# Altium footprint library CONN_W2B_H.PcbLib: 16 footprints
Each footprint in its own frame and in the unit in brackets; x right, y up, seen from the top. Pads: shape width x height; smd on the part's side, far side on the other; paste and mask are expansions set on the pad; w line width, h text height; cw(c..) or ccw(c..) is an arc to the next point about the centre after c.
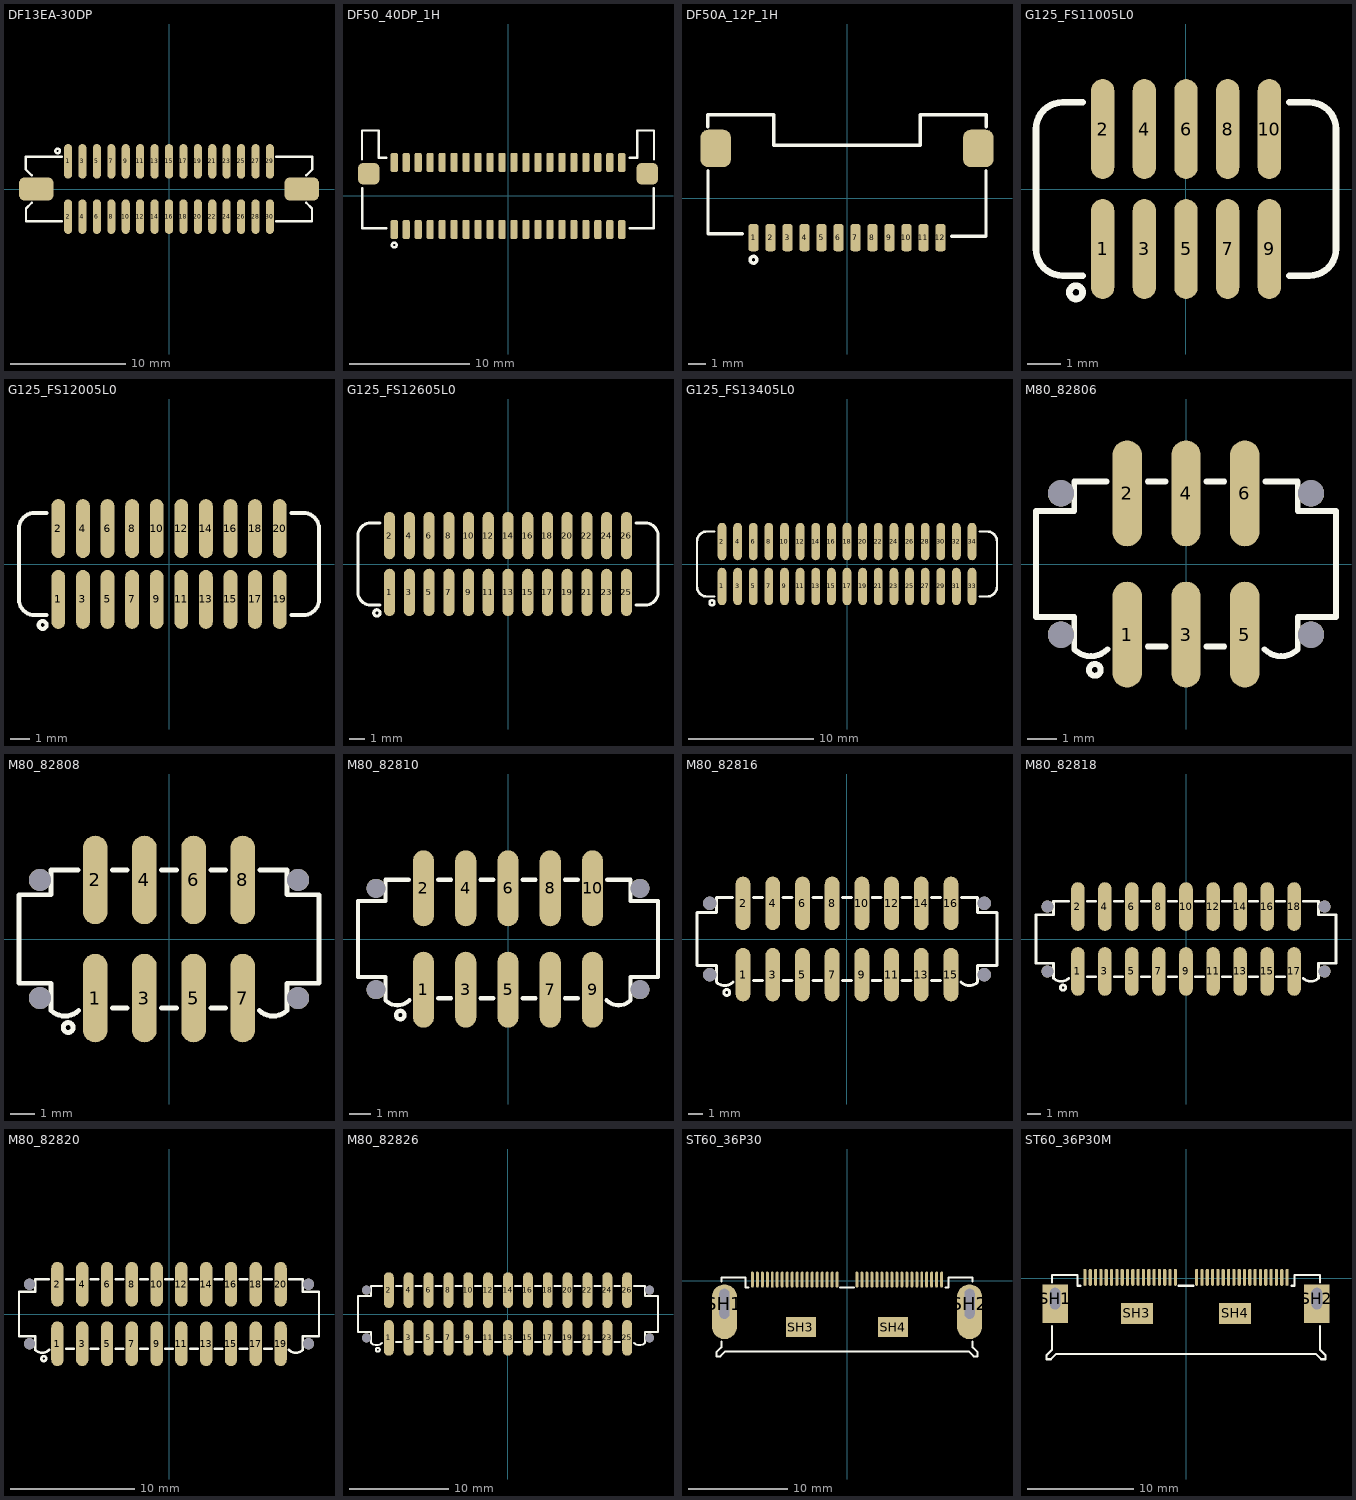
[diagram p0: the footprints below, top view; thin cyan lines are the x and y axes]

## DF13EA-30DP [mm] "DF13EA-30DP-1.25V Hirose 1.25mm"
pads (32):
  oval 0.7x3 smd: 1(-8.75,2.4) 2(-8.75,-2.4) 3(-7.5,2.4) 4(-7.5,-2.4) 5(-6.25,2.4) 6(-6.25,-2.4) 7(-5,2.4) 8(-5,-2.4) 9(-3.75,2.4) 10(-3.75,-2.4) 11(-2.5,2.4) 12(-2.5,-2.4) 13(-1.25,2.4) 14(-1.25,-2.4) 15(0,2.4) 16(0,-2.4) 17(1.25,2.4) 18(1.25,-2.4) 19(2.5,2.4) 20(2.5,-2.4) 21(3.75,2.4) 22(3.75,-2.4) 23(5,2.4) 24(5,-2.4) 25(6.25,2.4) 26(6.25,-2.4) 27(7.5,2.4) 28(7.5,-2.4) 29(8.75,2.4) 30(8.75,-2.4)
  rrect50% 3x2 smd: ""(-11.5,0) ""(11.5,0)
Top Overlay:
  circle w0.2: c-9.65,3.3 r0.2
  lines w0.2: -11.906,1.196 -12.406,1.696 -12.406,2.796 -9.306,2.796 ; -11.9,-1.2 -12.4,-1.7 -12.4,-2.8 -9.3,-2.8 ; 9.3,-2.8 12.4,-2.8 12.4,-1.7 11.9,-1.2 ; 9.306,2.796 12.406,2.796 12.406,1.696 11.906,1.196
3D body "DF13EA-30DP-1.25V.stp": height 4.8, standoff 0, extent -12.3,-3.45 12.3,3.45

## DF50_40DP_1H [mm] "DF50-40DP-1H(51)"
height 1.6
pads (42):
  rrect50% 0.6x1.6 smd: 1(-9.5,-2.8) 2(-9.5,2.8) 3(-8.5,-2.8) 4(-8.5,2.8) 5(-7.5,-2.8) 6(-7.5,2.8) 7(-6.5,-2.8) 8(-6.5,2.8) 9(-5.5,-2.8) 10(-5.5,2.8) 11(-4.5,-2.8) 12(-4.5,2.8) 13(-3.5,-2.8) 14(-3.5,2.8) 15(-2.5,-2.8) 16(-2.5,2.8) 17(-1.5,-2.8) 18(-1.5,2.8) 19(-0.5,-2.8) 20(-0.5,2.8) 21(0.5,-2.8) 22(0.5,2.8) 23(1.5,-2.8) 24(1.5,2.8) 25(2.5,-2.8) 26(2.5,2.8) 27(3.5,-2.8) 28(3.5,2.8) 29(4.5,-2.8) 30(4.5,2.8) 31(5.5,-2.8) 32(5.5,2.8) 33(6.5,-2.8) 34(6.5,2.8) 35(7.5,-2.8) 36(7.5,2.8) 37(8.5,-2.8) 38(8.5,2.8) 39(9.5,-2.8) 40(9.5,2.8)
  rrect50% 1.8x1.8 smd: ""(-11.625,1.85) ""(11.625,1.85)
Top Overlay:
  circle w0.2: c-9.5,-4.1 r0.2
  lines w0.2: -12.192,3.048 -12.192,5.461 -10.795,5.461 -10.795,3.175 -10.16,3.175 ; -12.175,0.635 -12.175,-2.71 -10.16,-2.71 ; 10.16,-2.71 12.175,-2.71 12.175,0.635 ; 10.16,3.175 10.795,3.175 10.795,5.461 12.192,5.461 12.192,3.048
3D body "DF50-40DP-1H.stp": height 9.01, standoff 0.01, extent -12.175,-3.218 12.175,5.442

## DF50A_12P_1H [mm] "DF50A-12P-1H(51), 1mm pitch"
pads (14):
  rrect50% 0.6x1.6 smd: 1(-5.5,-2.325) 2(-4.5,-2.325) 3(-3.5,-2.325) 4(-2.5,-2.325) 5(-1.5,-2.325) 6(-0.5,-2.325) 7(0.5,-2.325) 8(1.5,-2.325) 9(2.5,-2.325) 10(3.5,-2.325) 11(4.5,-2.325) 12(5.5,-2.325)
  rrect50% 1.8x2.2 smd: ""(-7.725,2.925) ""(7.725,2.925)
Top Overlay:
  circle w0.2: c-5.5,-3.625 r0.2
  lines w0.2: -8.192,4.2 -8.192,4.9 -4.3,4.9 -4.3,3.1 4.3,3.1 4.3,4.9 8.192,4.9 8.192,4.2 ; -8.175,1.6 -8.175,-2.1 -6.16,-2.1 ; 6.16,-2.235 8.175,-2.235 8.175,1.6
3D body "DF50A-12P-1H.stp": height 6.07, standoff -0.01, extent -8.405,-2.8 8.405,4.8

## G125_FS11005L0 [mm] "G125-FS11005L0 Harwin Gecko 1.25mm Female"
pads (10):
  oval 0.7x3 smd: 1(-2.5,-1.8) 2(-2.5,1.8) 3(-1.25,-1.8) 4(-1.25,1.8) 5(0,-1.8) 6(0,1.8) 7(1.25,-1.8) 8(1.25,1.8) 9(2.5,-1.8) 10(2.5,1.8)
Top Overlay:
  circle w0.2: c-3.3,-3.1 r0.2
  lines w0.2: -3.1,-2.6 -3.7,-2.6 cw(c-3.7,-1.8) -4.5,-1.8 -4.5,1.8 cw(c-3.7,1.8) -3.7,2.6 -3.1,2.6 ; 3.1,-2.6 3.7,-2.6 ccw(c3.7,-1.8) 4.5,-1.8 4.5,1.8 ccw(c3.7,1.8) 3.7,2.6 3.1,2.6
3D body "G125-FS11005L0_asm.stp": height 5.3, standoff -0.03, extent -4.4,-2.897 4.4,2.897

## G125_FS12005L0 [mm] "G125-FS12005L0 Harwin Gecko 1.25mm Female"
pads (20):
  oval 0.7x3 smd: 1(-5.625,-1.8) 2(-5.625,1.8) 3(-4.375,-1.8) 4(-4.375,1.8) 5(-3.125,-1.8) 6(-3.125,1.8) 7(-1.875,-1.8) 8(-1.875,1.8) 9(-0.625,-1.8) 10(-0.625,1.8) 11(0.625,-1.8) 12(0.625,1.8) 13(1.875,-1.8) 14(1.875,1.8) 15(3.125,-1.8) 16(3.125,1.8) 17(4.375,-1.8) 18(4.375,1.8) 19(5.625,-1.8) 20(5.625,1.8)
Top Overlay:
  circle w0.2: c-6.425,-3.1 r0.2
  lines w0.2: -6.225,-2.6 -6.825,-2.6 cw(c-6.825,-1.8) -7.625,-1.8 -7.625,1.8 cw(c-6.825,1.8) -6.825,2.6 -6.225,2.6 ; 6.225,-2.6 6.825,-2.6 ccw(c6.825,-1.8) 7.625,-1.8 7.625,1.8 ccw(c6.825,1.8) 6.825,2.6 6.225,2.6
3D body "G125-FS12005L0_asm.stp": height 5.3, standoff -0.04, extent -7.525,-2.897 7.525,2.897

## G125_FS12605L0 [mm] "G125-FS12605L0 Harwin Gecko 1.25mm Female"
pads (26):
  oval 0.7x3 smd: 1(-7.5,-1.8) 2(-7.5,1.8) 3(-6.25,-1.8) 4(-6.25,1.8) 5(-5,-1.8) 6(-5,1.8) 7(-3.75,-1.8) 8(-3.75,1.8) 9(-2.5,-1.8) 10(-2.5,1.8) 11(-1.25,-1.8) 12(-1.25,1.8) 13(0,-1.8) 14(0,1.8) 15(1.25,-1.8) 16(1.25,1.8) 17(2.5,-1.8) 18(2.5,1.8) 19(3.75,-1.8) 20(3.75,1.8) 21(5,-1.8) 22(5,1.8) 23(6.25,-1.8) 24(6.25,1.8) 25(7.5,-1.8) 26(7.5,1.8)
Top Overlay:
  circle w0.2: c-8.3,-3.1 r0.2
  lines w0.2: -8.1,-2.6 -8.7,-2.6 cw(c-8.7,-1.8) -9.5,-1.8 -9.5,1.8 cw(c-8.7,1.8) -8.7,2.6 -8.1,2.6 ; 8.1,-2.6 8.7,-2.6 ccw(c8.7,-1.8) 9.5,-1.8 9.5,1.8 ccw(c8.7,1.8) 8.7,2.6 8.1,2.6
3D body "G125-FS12605L0_asm.stp": height 5.3, standoff -0.04, extent -9.4,-2.897 9.4,2.897

## G125_FS13405L0 [mm] "G125-FS13405L0 Harwin Gecko 1.25mm Female"
pads (34):
  oval 0.7x3 smd: 1(-10,-1.8) 2(-10,1.8) 3(-8.75,-1.8) 4(-8.75,1.8) 5(-7.5,-1.8) 6(-7.5,1.8) 7(-6.25,-1.8) 8(-6.25,1.8) 9(-5,-1.8) 10(-5,1.8) 11(-3.75,-1.8) 12(-3.75,1.8) 13(-2.5,-1.8) 14(-2.5,1.8) 15(-1.25,-1.8) 16(-1.25,1.8) 17(0,-1.8) 18(0,1.8) 19(1.25,-1.8) 20(1.25,1.8) 21(2.5,-1.8) 22(2.5,1.8) 23(3.75,-1.8) 24(3.75,1.8) 25(5,-1.8) 26(5,1.8) 27(6.25,-1.8) 28(6.25,1.8) 29(7.5,-1.8) 30(7.5,1.8) 31(8.75,-1.8) 32(8.75,1.8) 33(10,-1.8) 34(10,1.8)
Top Overlay:
  circle w0.2: c-10.8,-3.1 r0.2
  lines w0.2: -10.6,-2.6 -11.2,-2.6 cw(c-11.2,-1.8) -12,-1.8 -12,1.8 cw(c-11.2,1.8) -11.2,2.6 -10.6,2.6 ; 10.6,-2.6 11.2,-2.6 ccw(c11.2,-1.8) 12,-1.8 12,1.8 ccw(c11.2,1.8) 11.2,2.6 10.6,2.6
3D body "g125-fs13405l0_asm.stp": height 5.3, standoff -0.03, extent -11.9,-2.897 11.9,2.897

## M80_82806 [mm] "M80-82806 Harwin Datamate 2mm Male"
pads (10):
  oval 1x3.6 smd: 1(-2,-2.4) 2(-2,2.4) 3(0,-2.4) 4(0,2.4) 5(2,-2.4) 6(2,2.4)
  round 0.9 hole 0.9 unplated: ""(-4.25,-2.4) ""(-4.25,2.4) ""(4.25,-2.4) ""(4.25,2.4)
Top Overlay:
  circle w0.2: c-3.1,-3.6 r0.2
  lines w0.2: -2.7,2.8 -3.8,2.8 -3.8,1.8 -5.1,1.8 -5.1,-1.8 -3.8,-1.8 -3.8,-2.9 ccw(c-3.234,-2.334) -2.669,-2.9 ; -1.3,-2.8 -0.7,-2.8 ; -1.3,2.8 -0.7,2.8 ; 0.7,-2.8 1.3,-2.8 ; 0.7,2.8 1.3,2.8 ; 2.669,-2.9 ccw(c3.234,-2.334) 3.8,-2.9 3.8,-1.8 5.1,-1.8 5.1,1.8 3.8,1.8 3.8,2.8 2.7,2.8
3D body "m80-8280642_asm.stp": height 9, standoff 0.04, extent -4.95,-3.781 4.95,3.781

## M80_82808 [mm] "M80-8280842 Harwin Datamate 2mm Male"
pads (12):
  oval 1x3.6 smd: 1(-3,-2.4) 2(-3,2.4) 3(-1,-2.4) 4(-1,2.4) 5(1,-2.4) 6(1,2.4) 7(3,-2.4) 8(3,2.4)
  round 0.9 hole 0.9 unplated: ""(-5.25,-2.4) ""(-5.25,2.4) ""(5.25,-2.4) ""(5.25,2.4)
Top Overlay:
  circle w0.2: c-4.1,-3.6 r0.2
  lines w0.2: -3.7,2.8 -4.8,2.8 -4.8,1.8 -6.1,1.8 -6.1,-1.8 -4.8,-1.8 -4.8,-2.9 ccw(c-4.234,-2.334) -3.669,-2.9 ; -2.3,-2.8 -1.7,-2.8 ; -2.3,2.8 -1.7,2.8 ; -0.3,-2.8 0.3,-2.8 ; -0.3,2.8 0.3,2.8 ; 1.7,-2.8 2.3,-2.8 ; 1.7,2.8 2.3,2.8 ; 3.669,-2.9 ccw(c4.234,-2.334) 4.8,-2.9 4.8,-1.8 6.1,-1.8 6.1,1.8 4.8,1.8 4.8,2.8 3.7,2.8
3D body "m80-8280842_asm.stp": height 9, standoff 0.04, extent -5.95,-3.781 5.95,3.781

## M80_82810 [mm] "M80-8281042 Harwin Datamate 2mm Male"
pads (14):
  oval 1x3.6 smd: 1(-4,-2.4) 2(-4,2.4) 3(-2,-2.4) 4(-2,2.4) 5(0,-2.4) 6(0,2.4) 7(2,-2.4) 8(2,2.4) 9(4,-2.4) 10(4,2.4)
  round 0.9 hole 0.9 unplated: ""(-6.25,-2.4) ""(-6.25,2.4) ""(6.25,-2.4) ""(6.25,2.4)
Top Overlay:
  circle w0.2: c-5.1,-3.6 r0.2
  lines w0.2: -4.7,2.8 -5.8,2.8 -5.8,1.8 -7.1,1.8 -7.1,-1.8 -5.8,-1.8 -5.8,-2.9 ccw(c-5.234,-2.334) -4.669,-2.9 ; -3.3,-2.8 -2.7,-2.8 ; -3.3,2.8 -2.7,2.8 ; -1.3,-2.8 -0.7,-2.8 ; -1.3,2.8 -0.7,2.8 ; 0.7,-2.8 1.3,-2.8 ; 0.7,2.8 1.3,2.8 ; 2.7,-2.8 3.3,-2.8 ; 2.7,2.8 3.3,2.8 ; 4.669,-2.9 ccw(c5.234,-2.334) 5.8,-2.9 5.8,-1.8 7.1,-1.8 7.1,1.8 5.8,1.8 5.8,2.8 4.7,2.8
3D body "m80-8281042_asm.stp": height 9, standoff 0.04, extent -6.95,-3.781 6.95,3.781

## M80_82816 [mm] "M80-8281642 Harwin Datamate 2mm Male"
pads (20):
  oval 1x3.6 smd: 1(-7,-2.4) 2(-7,2.4) 3(-5,-2.4) 4(-5,2.4) 5(-3,-2.4) 6(-3,2.4) 7(-1,-2.4) 8(-1,2.4) 9(1,-2.4) 10(1,2.4) 11(3,-2.4) 12(3,2.4) 13(5,-2.4) 14(5,2.4) 15(7,-2.4) 16(7,2.4)
  round 0.9 hole 0.9 unplated: ""(-9.25,-2.4) ""(-9.25,2.4) ""(9.25,-2.4) ""(9.25,2.4)
Top Overlay:
  circle w0.2: c-8.1,-3.6 r0.2
  lines w0.2: -7.7,2.8 -8.8,2.8 -8.8,1.8 -10.1,1.8 -10.1,-1.8 -8.8,-1.8 -8.8,-2.9 ccw(c-8.234,-2.334) -7.669,-2.9 ; -6.3,-2.8 -5.7,-2.8 ; -6.3,2.8 -5.7,2.8 ; -4.3,-2.8 -3.7,-2.8 ; -4.3,2.8 -3.7,2.8 ; -2.3,-2.8 -1.7,-2.8 ; -2.3,2.8 -1.7,2.8 ; -0.3,-2.8 0.3,-2.8 ; -0.3,2.8 0.3,2.8 ; 1.7,-2.8 2.3,-2.8 ; 1.7,2.8 2.3,2.8 ; 3.7,-2.8 4.3,-2.8 ; 3.7,2.8 4.3,2.8 ; 5.7,-2.8 6.3,-2.8 ; 5.7,2.8 6.3,2.8 ; 7.669,-2.9 ccw(c8.234,-2.334) 8.8,-2.9 8.8,-1.8 10.1,-1.8 10.1,1.8 8.8,1.8 8.8,2.8 7.7,2.8
3D body "m80-8281642_asm.stp": height 9, standoff 0.04, extent -9.95,-3.781 9.95,3.781

## M80_82818 [mm] "M80-8281842 Harwin Datamate 2mm Male"
pads (22):
  oval 1x3.6 smd: 1(-8,-2.4) 2(-8,2.4) 3(-6,-2.4) 4(-6,2.4) 5(-4,-2.4) 6(-4,2.4) 7(-2,-2.4) 8(-2,2.4) 9(0,-2.4) 10(0,2.4) 11(2,-2.4) 12(2,2.4) 13(4,-2.4) 14(4,2.4) 15(6,-2.4) 16(6,2.4) 17(8,-2.4) 18(8,2.4)
  round 0.9 hole 0.9 unplated: ""(-10.25,-2.4) ""(-10.25,2.4) ""(10.25,-2.4) ""(10.25,2.4)
Top Overlay:
  circle w0.2: c-9.1,-3.6 r0.2
  lines w0.2: -8.7,2.8 -9.8,2.8 -9.8,1.8 -11.1,1.8 -11.1,-1.8 -9.8,-1.8 -9.8,-2.9 ccw(c-9.234,-2.334) -8.669,-2.9 ; -7.3,-2.8 -6.7,-2.8 ; -7.3,2.8 -6.7,2.8 ; -5.3,-2.8 -4.7,-2.8 ; -5.3,2.8 -4.7,2.8 ; -3.3,-2.8 -2.7,-2.8 ; -3.3,2.8 -2.7,2.8 ; -1.3,-2.8 -0.7,-2.8 ; -1.3,2.8 -0.7,2.8 ; 0.7,-2.8 1.3,-2.8 ; 0.7,2.8 1.3,2.8 ; 2.7,-2.8 3.3,-2.8 ; 2.7,2.8 3.3,2.8 ; 4.7,-2.8 5.3,-2.8 ; 4.7,2.8 5.3,2.8 ; 6.7,-2.8 7.3,-2.8 ; 6.7,2.8 7.3,2.8 ; 8.669,-2.9 ccw(c9.234,-2.334) 9.8,-2.9 9.8,-1.8 11.1,-1.8 11.1,1.8 9.8,1.8 9.8,2.8 8.7,2.8
3D body "m80-8281842_asm.stp": height 9, standoff 0.04, extent -10.95,-3.781 10.95,3.781

## M80_82820 [mm] "M80-8282042 Harwin Datamate 2mm Male"
pads (24):
  oval 1x3.6 smd: 1(-9,-2.4) 2(-9,2.4) 3(-7,-2.4) 4(-7,2.4) 5(-5,-2.4) 6(-5,2.4) 7(-3,-2.4) 8(-3,2.4) 9(-1,-2.4) 10(-1,2.4) 11(1,-2.4) 12(1,2.4) 13(3,-2.4) 14(3,2.4) 15(5,-2.4) 16(5,2.4) 17(7,-2.4) 18(7,2.4) 19(9,-2.4) 20(9,2.4)
  round 0.9 hole 0.9 unplated: ""(-11.25,-2.4) ""(-11.25,2.4) ""(11.25,-2.4) ""(11.25,2.4)
Top Overlay:
  circle w0.2: c-10.1,-3.6 r0.2
  lines w0.2: -9.7,2.8 -10.8,2.8 -10.8,1.8 -12.1,1.8 -12.1,-1.8 -10.8,-1.8 -10.8,-2.9 ccw(c-10.234,-2.334) -9.669,-2.9 ; -8.3,-2.8 -7.7,-2.8 ; -8.3,2.8 -7.7,2.8 ; -6.3,-2.8 -5.7,-2.8 ; -6.3,2.8 -5.7,2.8 ; -4.3,-2.8 -3.7,-2.8 ; -4.3,2.8 -3.7,2.8 ; -2.3,-2.8 -1.7,-2.8 ; -2.3,2.8 -1.7,2.8 ; -0.3,-2.8 0.3,-2.8 ; -0.3,2.8 0.3,2.8 ; 1.7,-2.8 2.3,-2.8 ; 1.7,2.8 2.3,2.8 ; 3.7,-2.8 4.3,-2.8 ; 3.7,2.8 4.3,2.8 ; 5.7,-2.8 6.3,-2.8 ; 5.7,2.8 6.3,2.8 ; 7.7,-2.8 8.3,-2.8 ; 7.7,2.8 8.3,2.8 ; 9.669,-2.9 ccw(c10.234,-2.334) 10.8,-2.9 10.8,-1.8 12.1,-1.8 12.1,1.8 10.8,1.8 10.8,2.8 9.7,2.8
3D body "m80-8282042_asm.stp": height 9, standoff 0.04, extent -11.95,-3.781 11.95,3.781

## M80_82826 [mm] "M80-8282642 Harwin Datamate 2mm Male"
pads (30):
  oval 1x3.6 smd: 1(-12,-2.4) 2(-12,2.4) 3(-10,-2.4) 4(-10,2.4) 5(-8,-2.4) 6(-8,2.4) 7(-6,-2.4) 8(-6,2.4) 9(-4,-2.4) 10(-4,2.4) 11(-2,-2.4) 12(-2,2.4) 13(0,-2.4) 14(0,2.4) 15(2,-2.4) 16(2,2.4) 17(4,-2.4) 18(4,2.4) 19(6,-2.4) 20(6,2.4) 21(8,-2.4) 22(8,2.4) 23(10,-2.4) 24(10,2.4) 25(12,-2.4) 26(12,2.4)
  round 0.9 hole 0.9 unplated: ""(-14.25,-2.4) ""(-14.25,2.4) ""(14.25,-2.4) ""(14.25,2.4)
Top Overlay:
  circle w0.2: c-13.1,-3.6 r0.2
  lines w0.2: -12.7,2.8 -13.8,2.8 -13.8,1.8 -15.1,1.8 -15.1,-1.8 -13.8,-1.8 -13.8,-2.9 ccw(c-13.234,-2.334) -12.669,-2.9 ; -11.3,-2.8 -10.7,-2.8 ; -11.3,2.8 -10.7,2.8 ; -9.3,-2.8 -8.7,-2.8 ; -9.3,2.8 -8.7,2.8 ; -7.3,-2.8 -6.7,-2.8 ; -7.3,2.8 -6.7,2.8 ; -5.3,-2.8 -4.7,-2.8 ; -5.3,2.8 -4.7,2.8 ; -3.3,-2.8 -2.7,-2.8 ; -3.3,2.8 -2.7,2.8 ; -1.3,-2.8 -0.7,-2.8 ; -1.3,2.8 -0.7,2.8 ; 0.7,-2.8 1.3,-2.8 ; 0.7,2.8 1.3,2.8 ; 2.7,-2.8 3.3,-2.8 ; 2.7,2.8 3.3,2.8 ; 4.7,-2.8 5.3,-2.8 ; 4.7,2.8 5.3,2.8 ; 6.7,-2.8 7.3,-2.8 ; 6.7,2.8 7.3,2.8 ; 8.7,-2.8 9.3,-2.8 ; 8.7,2.8 9.3,2.8 ; 10.7,-2.8 11.3,-2.8 ; 10.7,2.8 11.3,2.8 ; 12.669,-2.9 ccw(c13.234,-2.334) 13.8,-2.9 13.8,-1.8 15.1,-1.8 15.1,1.8 13.8,1.8 13.8,2.8 12.7,2.8
3D body "m80-8282642_asm.stp": height 9, standoff 0.04, extent -14.95,-3.781 14.95,3.781

## ST60_36P30 [mm] "ST60-36P(30) HIROSE, 0.5mm pitch"
height 4.06
pads (40):
  oval 0.3x1.6 smd mask+0.05: 1(-9.5,0.1) 2(-9,0.1) 3(-8.5,0.1) 4(-8,0.1) 5(-7.5,0.1) 6(-7,0.1) 7(-6.5,0.1) 8(-6,0.1) 9(-5.5,0.1) 10(-5,0.1) 11(-4.5,0.1) 12(-4,0.1) 13(-3.5,0.1) 14(-3,0.1) 15(-2.5,0.1) 16(-2,0.1) 17(-1.5,0.1) 18(-1,0.1) 19(1,0.1) 20(1.5,0.1) 21(2,0.1) 22(2.5,0.1) 23(3,0.1) 24(3.5,0.1) 25(4,0.1) 26(4.5,0.1) 27(5,0.1) 28(5.5,0.1) 29(6,0.1) 30(6.5,0.1) 31(7,0.1) 32(7.5,0.1) 33(8,0.1) 34(8.5,0.1) 35(9,0.1) 36(9.5,0.1)
  oval 2.5x5.5 hole 1 slot 3 at 90 deg copper offset 0,-0.8: SH1(-12.3,-2.325) SH2(12.3,-2.325)
  rect 3x2 smd: SH3(-4.625,-4.675) SH4(4.625,-4.675)
Top Overlay:
  lines w0.2: -12.6,-6.1 -12.6,-6.7 -13.1,-7.2 -13.1,-7.6 -12.7,-7.6 -12.2,-7.1 12.2,-7.1 12.7,-7.6 13.1,-7.6 13.1,-7.2 12.6,-6.7 12.6,-6.1 ; -12.6,-0.1 -12.6,0.3 -10.2,0.3 -10.2,-0.7 -9.9,-0.7 ; -0.7,-0.7 0.7,-0.7 ; 9.9,-0.7 10.2,-0.7 10.2,0.3 12.6,0.3 ; 12.6,0.3 12.6,-0.1 12.6,0.3
3D body "ST60-36P.stp": height 3.63, standoff -0.67, extent -13,-7.44 13.009,0.64

## ST60_36P30M [mm] "ST60-36P(30) HIROSE, 0.5mm pitch modified"
height 4.06
pads (40):
  oval 0.3x1.6 smd mask+0.05: 1(-9.5,0.1) 2(-9,0.1) 3(-8.5,0.1) 4(-8,0.1) 5(-7.5,0.1) 6(-7,0.1) 7(-6.5,0.1) 8(-6,0.1) 9(-5.5,0.1) 10(-5,0.1) 11(-4.5,0.1) 12(-4,0.1) 13(-3.5,0.1) 14(-3,0.1) 15(-2.5,0.1) 16(-2,0.1) 17(-1.5,0.1) 18(-1,0.1) 19(1,0.1) 20(1.5,0.1) 21(2,0.1) 22(2.5,0.1) 23(3,0.1) 24(3.5,0.1) 25(4,0.1) 26(4.5,0.1) 27(5,0.1) 28(5.5,0.1) 29(6,0.1) 30(6.5,0.1) 31(7,0.1) 32(7.5,0.1) 33(8,0.1) 34(8.5,0.1) 35(9,0.1) 36(9.5,0.1)
  rect 2.4x3.6 hole 1 slot 2 at 90 deg copper offset 0,-0.5: SH1(-12.3,-1.9) SH2(12.3,-1.9)
  rect 3x2 smd: SH3(-4.625,-3.3) SH4(4.625,-3.3)
Top Overlay:
  lines w0.2: -12.6,-4.5 -12.6,-6.7 -13.1,-7.2 -13.1,-7.6 -12.7,-7.6 -12.2,-7.1 12.2,-7.1 12.7,-7.6 13.1,-7.6 13.1,-7.2 12.6,-6.7 12.6,-4.5 ; -12.6,-0.4 -12.6,0.3 -10.2,0.3 -10.2,-0.7 -9.9,-0.7 ; -0.7,-0.7 0.7,-0.7 ; 9.9,-0.7 10.2,-0.7 10.2,0.3 12.6,0.3 12.6,-0.4
3D body "ST60-36P.stp": height 3.63, standoff -0.67, extent -13,-7.44 13.009,0.64